# Altium schematic symbol library AltiumSymbolLibrary.SchLib: 28 symbols
Pins are listed as number, name and electrical type; pins without a type are passive.

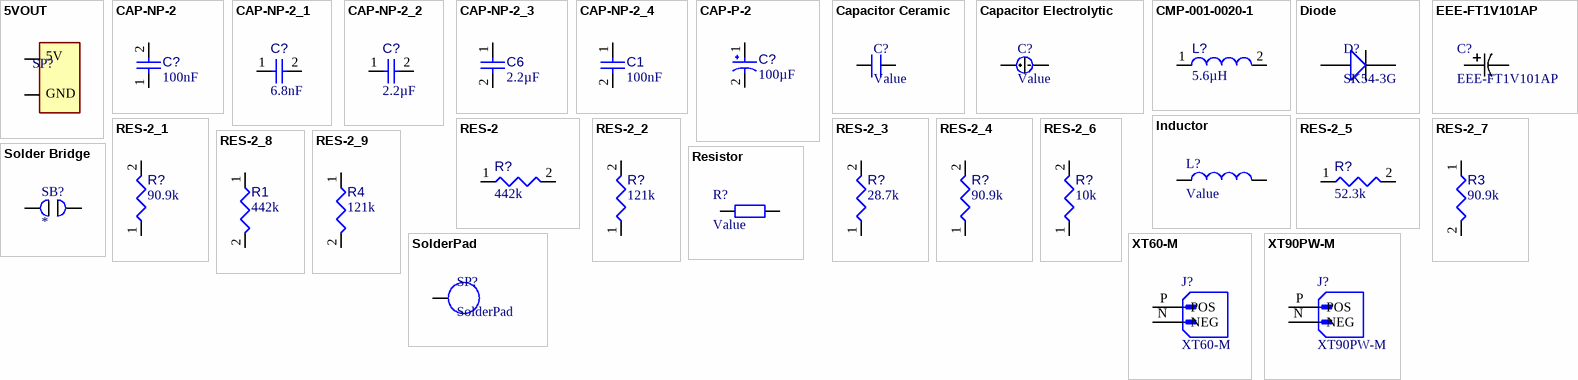
[diagram p0: symbols 5VOUT to XT90PW-M]

## 5VOUT
designator SP?
Value: *; HelpURL: *; MPN: *; classname: *
footprint 5VOUT
pins: 1, 2
text: 5V; GND

## CAP-NP-2
designator C?, comment value 100nF  (hidden comment: Capacitor 100nF +/-20% 25V 0402)
Chip Capacitor, 100nF +/-20%, 25V, 0402, Thickness 0.6 mm; Tolerance: 10%; Max Operating Temperature: 85°C; Min Operating Temperature: -55°C; Pins: 2; Voltage Rating: 25V; Mounting Technology: SMT; Case/Package: 0402
footprint CAPC0402(1005)60_L (Chip Capacitor, Body 1.0x0.5mm, Height 0.6mm, IPC High Density)
pins: 1, 2

## CAP-NP-2_1
designator C?, comment value 6.8nF  (hidden comment: Capacitor 6.8nF +/-20% 25V 0402)
Chip Capacitor, 6.8nF +/-20%, 25V, 0402, Thickness 0.6 mm; Tolerance: 10%; Voltage Rating: 25V; Max Operating Temperature: 85°C; Min Operating Temperature: -55°C; Pins: 2; Mounting Technology: SMT; Case/Package: 0402
footprint CAPC0402(1005)60_L (Chip Capacitor, Body 1.0x0.5mm, Height 0.6mm, IPC High Density)
pins: 1, 2

## CAP-NP-2_2
designator C?, comment value 2.2µF  (hidden comment: Capacitor 2,2µF +/-20% 10V 0402)
Chip Capacitor, 2,2µF +/-20%, 10V, 0402, Thickness 0.6 mm; Tolerance: 10%; Mounting Technology: SMT; Max Operating Temperature: 85°C; Case/Package: 0402; Pins: 2; Min Operating Temperature: -55°C; Voltage Rating: 10V
footprint CAPC0402(1005)60_L (Chip Capacitor, Body 1.0x0.5mm, Height 0.6mm, IPC High Density)
pins: 1, 2

## CAP-NP-2_3
designator C6, comment value 2.2µF  (hidden comment: Capacitor 2.2µF +/-40% 35V 0805)
Chip Capacitor, 2.2µF +/-40%, 35V, 0805, Thickness 1.45 mm; Tolerance: 20%; Pins: 2; Max Operating Temperature: 85°C; Mounting Technology: SMT; Voltage Rating: 35V; Min Operating Temperature: -55°C; Case/Package: 0805
footprint CAPC0805(2012)145_L (Chip Capacitor, Body 2.0x1.2mm, Height 1.45mm, IPC High Density)
pins: 1, 2

## CAP-NP-2_4
designator C1, comment value 100nF  (hidden comment: Capacitor 100nF +/-40% 6.3V 0805)
Chip Capacitor, 100nF +/-40%, 6.3V, 0805, Thickness 1.45 mm; Tolerance: 10%; Case/Package: 0805; Max Operating Temperature: 85°C; Mounting Technology: SMT; Min Operating Temperature: -55°C; Voltage Rating: 6.3V; Pins: 2
footprint CAPC0805(2012)145_L (Chip Capacitor, Body 2.0x1.2mm, Height 1.45mm, IPC High Density)
pins: 1, 2

## CAP-P-2
designator C?, comment value 100µF  (hidden comment: EEE-FT1V101AP)
Tantalum Surface Mount Capacitor-Standard Tantalum, 100 uF, +/- 10%, 10 V, -55 to 125 degC, 2917 (7343 Metric), RoHS, Tape and Reel; Manufacturer: Kemet; Ripple Current: 463mA; ESR: 700mohm; Voltage Rating: 10V; Tolerance: 10%; Packaging: TapeandReel; Datasheet Version: Jun-16; Package Quantity: 1; Max Operating Temperature: 125°C; Package Reference: T491-D; Pins: 2; Mounting Technology: SM; Datasheet URL: http://www.kemet.com/Lists/ProductCatalog/Attachments/254/KEM_T2005_T491.pdf; Min Operating Temperature: -55°C; Package Description: 2-Pin Surface Mount Device, Body 7.3 x 4.3 mm; RoHS Compliant: True; Case/Package: 2917; Capacitor Type: Tantalum; Manufacturer URL: http://www.kemet.com/
footprint CapBulk
pins: 1, 2

## Capacitor Ceramic
designator C?, comment Value
pins: 1, 2

## Capacitor Electrolytic
designator C?, comment Value
pins: 1, 2

## CMP-001-0020-1
designator L?, comment value 5.6µH  (hidden comment: Inductor 5.6uH)
Shielded Wirewound Inductor, 5.6 uH, +/- 20%, -20 to 120 degC, 2-Pin SMD, RoHS, Tape and Reel; Pins: 2; Tolerance: 20%; Case/Package: SMD/SMT
footprint SUSUMU-PCMB063T_V (SMD, 2-Leads, Body 7.8x6.7mm)
pins: 1, 2

## Diode
designator D?, comment SK54-3G
footprint SK54-3G
pins: 1, 2

## EEE-FT1V101AP
designator C?
Description; Manufacturer_Name: Panasonic; Copyright: Copyright (C) 2025 Ultra Librarian. All rights reserved.; Manufacturer_Part_Number: EEE-FT1V101AP
footprint CapBulk
pins: 1, 2

## Inductor
designator L?, comment Value
pins: 7, 8

## RES-2
designator R?, comment value 442k  (hidden comment: Resistor 442K +/-1 % 0402 63 mW)
Chip Resistor, 442 kOhms, +/-1 %, 63 mW, -55 to 155 degC, 0402; Tolerance: 1%; Power: 63mW; Max Operating Temperature: 155°C; Min Operating Temperature: -55°C; Case/Package: 0402; Pins: 2
footprint RESC0402(1005)_L (Chip Resistor, Body 1.0x0.5mm, IPC High Density)
pins: 1, 2
1 alternate drawing of the same symbol

## RES-2_1
designator R?, comment value 90.9k  (hidden comment: Resistor 90.9k +/-1% 0402 100 mW)
Chip Resistor, 90.9 KOhm, +/- 1%, 0.1 W, -55 to 155 degC, 0402 (1005 Metric); Power: 100mW; Voltage Rating: 50V; Mounting Technology: SM; Pins: 2; Min Operating Temperature: -55°C; Tolerance: 1%; RoHS Compliant: True; Case/Package: 0402; Max Operating Temperature: 155°C
footprint RESC1005X40X25ML05T05 (Chip Resistor, 2-Leads, Body 1.05x0.55mm, IPC Low Density)
footprint RESC1005X40X25NL05T05 (Chip Resistor, 2-Leads, Body 1.05x0.55mm, IPC Medium Density)
footprint RESC1005X40X25LL05T05 (Chip Resistor, 2-Leads, Body 1.05x0.55mm, IPC High Density)
pins: 1, 2
1 alternate drawing of the same symbol

## RES-2_2
designator R?, comment value 121k  (hidden comment: Resistor 121K +/-1 % 0402 63 mW)
Chip Resistor, 121 kOhms, +/-1 %, 63 mW, -55 to 155 degC, 0402; Power: 63mW; Tolerance: 1%; Case/Package: 0402; Max Operating Temperature: 155°C; Min Operating Temperature: -55°C; Pins: 2
footprint RESC0402(1005)_L (Chip Resistor, Body 1.0x0.5mm, IPC High Density)
pins: 1, 2
1 alternate drawing of the same symbol

## RES-2_3
designator R?, comment value 28.7k  (hidden comment: Resistor 28.7k +/-1% 0402 100 mW)
Chip Resistor, 28.7 KOhm, +/- 1%, 0.1 W, -55 to 155 degC, 0402 (1005 Metric); Voltage Rating: 50V; Power: 100mW; Min Operating Temperature: -55°C; Case/Package: 0402; RoHS Compliant: True; Mounting Technology: SM; Pins: 2; Max Operating Temperature: 155°C; Tolerance: 1%
footprint RESC1005X40X25ML05T05 (Chip Resistor, 2-Leads, Body 1.05x0.55mm, IPC Low Density)
footprint RESC1005X40X25NL05T05 (Chip Resistor, 2-Leads, Body 1.05x0.55mm, IPC Medium Density)
footprint RESC1005X40X25LL05T05 (Chip Resistor, 2-Leads, Body 1.05x0.55mm, IPC High Density)
pins: 1, 2
1 alternate drawing of the same symbol

## RES-2_4
designator R?, comment value 90.9k  (hidden comment: Resistor 90.9K +/-1 % 0402 63 mW)
Chip Resistor, 90.9 kOhms, +/-1 %, 63 mW, -55 to 155 degC, 0402; Power: 63mW; Tolerance: 1%; Max Operating Temperature: 155°C; Pins: 2; Min Operating Temperature: -55°C; Case/Package: 0402
footprint RESC0402(1005)_L (Chip Resistor, Body 1.0x0.5mm, IPC High Density)
pins: 1, 2
1 alternate drawing of the same symbol

## RES-2_5
designator R?, comment value 52.3k  (hidden comment: Resistor 52.3k +/-1% 0402 100 mW)
Chip Resistor, 52.3 KOhm, +/- 1%, 0.1 W, -55 to 155 degC, 0402 (1005 Metric); Voltage Rating: 50V; Power: 100mW; Max Operating Temperature: 155°C; Tolerance: 1%; Min Operating Temperature: -55°C; Pins: 2; Case/Package: 0402; Mounting Technology: SM; RoHS Compliant: True
footprint RESC1005X40X25ML05T05 (Chip Resistor, 2-Leads, Body 1.05x0.55mm, IPC Low Density)
footprint RESC1005X40X25NL05T05 (Chip Resistor, 2-Leads, Body 1.05x0.55mm, IPC Medium Density)
footprint RESC1005X40X25LL05T05 (Chip Resistor, 2-Leads, Body 1.05x0.55mm, IPC High Density)
pins: 1, 2
1 alternate drawing of the same symbol

## RES-2_6
designator R?, comment value 10k  (hidden comment: Resistor 10k +/-1% 0402 100 mW)
Chip Resistor, 10 KOhm, +/- 1%, 0.1 W, -55 to 155 degC, 0402 (1005 Metric); Voltage Rating: 50V; Power: 100mW; Case/Package: 0402; RoHS Compliant: True; Min Operating Temperature: -55°C; Mounting Technology: SM; Tolerance: 1%; Max Operating Temperature: 155°C; Pins: 2
footprint RESC1005X40X25ML05T05 (Chip Resistor, 2-Leads, Body 1.05x0.55mm, IPC Low Density)
footprint RESC1005X40X25NL05T05 (Chip Resistor, 2-Leads, Body 1.05x0.55mm, IPC Medium Density)
footprint RESC1005X40X25LL05T05 (Chip Resistor, 2-Leads, Body 1.05x0.55mm, IPC High Density)
pins: 1, 2
1 alternate drawing of the same symbol

## RES-2_7
designator R3, comment value 90.9k  (hidden comment: Resistor 90.9 kOhms  +/-5 % 0805 125 mW)
Chip Resistor, 90.9 kOhms, +/-5 %, 125 mW, -55 to 155 degC, 0805; Tolerance: 5%; Power: 125mW; Case/Package: 0805; Pins: 2; Min Operating Temperature: -55°C; Max Operating Temperature: 155°C
footprint RESC0805(2012)_L (Chip Resistor, Body 2.0x1.3mm, IPC High Density)
pins: 1, 2
1 alternate drawing of the same symbol

## RES-2_8
designator R1, comment value 442k  (hidden comment: Resistor 442kR +/-5% 0805 125 mW)
Chip Resistor, 442 kOhms, +/-5%, 125 mW, -55 to 155 degC, 0805; Tolerance: 5%; Power: 125mW; Min Operating Temperature: -55°C; Case/Package: 0805; Pins: 2; Max Operating Temperature: 155°C
footprint RESC0805(2012)_L (Chip Resistor, Body 2.0x1.3mm, IPC High Density)
pins: 1, 2
1 alternate drawing of the same symbol

## RES-2_9
designator R4, comment value 121k  (hidden comment: Resistor 121 kOhms  +/-5 % 0805 125 mW)
Chip Resistor, 121 kOhms, +/-5 %, 125 mW, -55 to 155 degC, 0805; Power: 125mW; Tolerance: 5%; Case/Package: 0805; Max Operating Temperature: 155°C; Min Operating Temperature: -55°C; Pins: 2
footprint RESC0805(2012)_L (Chip Resistor, Body 2.0x1.3mm, IPC High Density)
pins: 1, 2
1 alternate drawing of the same symbol

## Resistor
designator R?, comment Value
pins: 1, 2

## Solder Bridge
designator SB?
pins: 1, 2

## SolderPad
designator SP?
Value: *; HelpURL: *; MPN: *; classname: *
footprint SolderPad
pins: 1

## XT60-M
designator J?
Plug; DC supply; XT60; male; PIN: 2; for cable; soldered; 30A; 500V; MF: AMASS; Source: XT60-M.SchLib; SnapEDA_Link: https://www.snapeda.com/parts/XT60-M/AMASS/view-part/?ref=snap; Check_prices: https://www.snapeda.com/parts/XT60-M/AMASS/view-part/?ref=eda; Value: *; Component Type: Standard; Design Item ID: XT60-M; MP: XT60-M; Pin Count: 2; Package: Package
footprint AMASS_XT60-M
pins: N NEG, P POS

## XT90PW-M
designator J?
Socket; DC supply; XT90; male; PIN: 2; on PCBs; THT; Colour: yellow; MF: AMASS; Check_prices: https://www.snapeda.com/parts/XT90PW-M/AMASS/view-part/?ref=eda; Pins: 2; Case/Package: Package; SnapEDA_Link: https://www.snapeda.com/parts/XT90PW-M/AMASS/view-part/?ref=snap; Design Item ID: XT90PW-M; Component Type: Standard; Source: XT90PW-M.SchLib; Value: *; MP: XT90PW-M
footprint AMASS_XT90PW-M
pins: N NEG, P POS